# EAGLE library part 61300825721 (library Wurth_Elektronik_Electromechanic_Board_to_Board_Connectors_rev16a)
WR-PHD 2.54mm Dual Socket Header Bottom Entry, 8 Pins =>Code : Con_BTB_SHD_2.54_2_61300825721 <http://katalog.we-online.de/media/images/eican/Con_BTB_SHD_2.54_2_6130xx25721_pf2.jpg> Details see: http://katalog.we-online.de/en/em/613_0xx_257_21 Created 2014-05-30, Karrer Zheng 2014 (C) Würth Elektronik
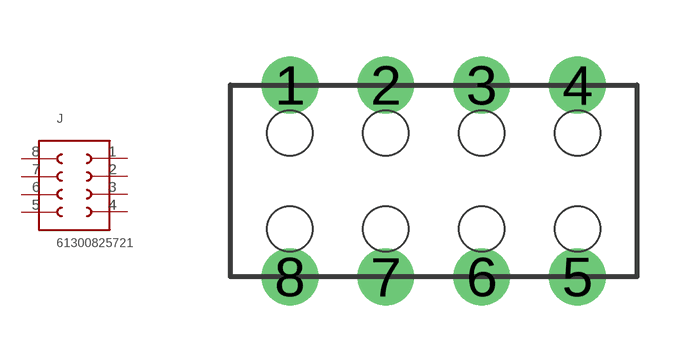
[diagram p157: symbol with the pads of 61300825721; footprint 61300825721]

Designator prefix J

## 61300825721  [61300825721]
1  1  pas
2  2  pas
3  3  pas
4  4  pas
5  5  pas
6  6  pas
7  7  pas
8  8  pas

## Footprint 61300825721 (pad centres in mm)
WR-PHD 2.54mm Dual Socket Header Bottom Entry, 8 Pins
drill 1: 1 -3.81,2.54; 2 -1.27,2.54; 3 1.27,2.54; 4 3.81,2.54; 5 3.81,-2.54; 6 1.27,-2.54; 7 -1.27,-2.54; 8 -3.81,-2.54
hole 1.2 at -3.81,1.27
hole 1.2 at -1.27,1.27
hole 1.2 at 1.27,1.27
hole 1.2 at 3.81,1.27
hole 1.2 at 3.81,-1.27
hole 1.2 at 1.27,-1.27
hole 1.2 at -1.27,-1.27
hole 1.2 at -3.81,-1.27